# Altium schematic symbol library BSS138LT1G.SchLib: 1 symbol
Pins are listed as number, name and electrical type; pins without a type are passive.

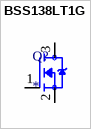
[diagram p0: symbol BSS138LT1G]

## BSS138LT1G
designator Q?
N-Channel 50 V 200mA (Ta) 225mW (Ta) Surface Mount SOT-23-3 (TO-236); MF: onsemi; MP: BSS138LT1G; SnapEDA_Link: https://www.snapeda.com/parts/BSS138LT1G/Onsemi/view-part/?ref=snap; Package: SOT-23-3 Motorola; Value: *; Check_prices: https://www.snapeda.com/parts/BSS138LT1G/Onsemi/view-part/?ref=eda
footprint SOT95P237X111-3N
pins: 1 G, 2 S, 3 D